# Altium schematic symbol library dAir.SchLib: 17 symbols
Pins are listed as number, name and electrical type; pins without a type are passive.

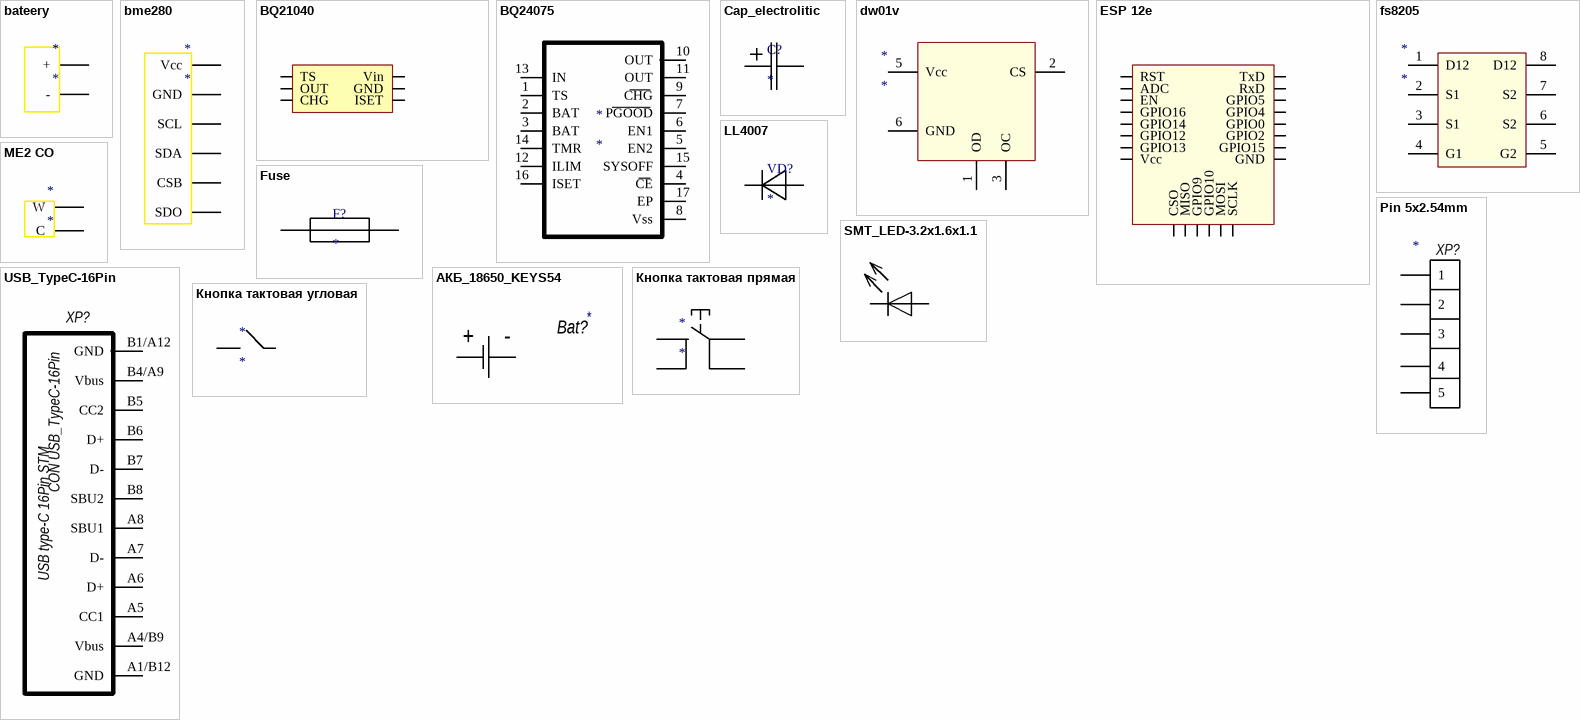
[diagram p0: symbols bateery to Кнопка тактовая угловая]

## bateery
designator *
footprint battery
pins: 1 +, 2 -

## bme280
designator *
footprint BME280_4pin
footprint BME280_4_no_pin
footprint BME280_only4_no_pin
footprint BME680
pins: 1 Vcc, 2 GND, 3 SCL, 4 SDA, 5 CSB, 6 SDO

## BQ21040
designator Q?, comment 2N3904
NPN General Purpose Amplifier; Published: 8-Jun-2000; LatestRevisionDate: 15-Jan-2003; LatestRevisionNote: PCB Footprint 'BCY-W3/D4.7' replaced; DatasheetVersion: 1997; PackageVersion: Sep-1998; PackageReference: TO-92A; Publisher: Altium Limited; PackageDescription: TO, Flat Index; 3 In-Line, Axial Leads; Body Dia. 4.5mm; Leads 0.51 x 0.48 mm (max); ComponentLink1Description: Manufacturer Link; ComponentLink1URL: http://www.fairchildsemi.com/; ComponentLink2Description: Datasheet; ComponentLink2URL: http://www.fairchildsemi.com/ds/2N%2F2N3904.pdf
footprint BQ21040
pins: 1 TS, 2 OUT, 3 CHG, 4 ISET, 5 GND, 6 Vin

## BQ24075
designator *
footprint VQFN_16 (QFN, 16-Leads, Body 3,00x3,00mm, Pitch 0,50mm, Thermal Pad 1,68x1,68mm, IPC Medium Density)
pins: 1 TS, 2 BAT, 3 BAT, 4 CE, 5 EN2, 6 EN1, 7 PGOOD, 8 Vss, 9 CHG, 10 OUT, 11 OUT, 12 ILIM, 13 IN, 14 TMR, 15 SYSOFF, 16 ISET, 17 EP

## Cap_electrolitic
designator C?
footprint Capacitor_radial_16x25_7.5mm
footprint Tantal тип D
footprint Tantal тип E
footprint Capacitor_radial_13x21_5mm
pins: 1 +, 2 -

## dw01v
designator *
footprint dw01v_SOT-23-6
pins: 1 OD, 2 CS, 3 OC, 5 Vcc, 6 GND

## ESP 12e
designator Q?
NPN General Purpose Amplifier; Published: 8-Jun-2000; LatestRevisionDate: 15-Jan-2003; LatestRevisionNote: PCB Footprint 'BCY-W3/D4.7' replaced; DatasheetVersion: 1997; PackageVersion: Sep-1998; PackageReference: TO-92A; Publisher: Altium Limited; PackageDescription: TO, Flat Index; 3 In-Line, Axial Leads; Body Dia. 4.5mm; Leads 0.51 x 0.48 mm (max); ComponentLink1Description: Manufacturer Link; ComponentLink1URL: http://www.fairchildsemi.com/; ComponentLink2Description: Datasheet; ComponentLink2URL: http://www.fairchildsemi.com/ds/2N%2F2N3904.pdf
footprint ESP 12e
pins: 1 RST, 2 ADC, 3 EN, 4 GPIO16, 5 GPIO14, 6 GPIO12, 7 GPIO13, 8 Vcc, 9 CSO, 10 MISO, 11 GPIO9, 12 GPIO10, 13 MOSI, 14 SCLK, 15 GND, 16 GPIO15, 17 GPIO2, 18 GPIO0, 19 GPIO4, 20 GPIO5, 21 RxD, 22 TxD

## fs8205
designator *
footprint fs8205-sot23-6
footprint FS8205_TSSOP-8
pins: 1 D12, 2 S1, 3 S1, 4 G1, 5 G2, 6 S2, 7 S2, 8 D12

## Fuse
designator F?
footprint FUSE_MF-MSMF050
pins: 1 *, 2 *

## LL4007
designator VD?
footprint MELF/DO-213AB
pins: 1, 2

## ME2 CO
designator *
footprint ME2_CO
pins: 1W W, 2C C

## Pin 5x2.54mm
designator *, comment XP?
footprint Pin 5x2.54
pins: 1, 2, 3, 4, 5

## SMT_LED-3.2x1.6x1.1
designator HL?, comment HL?  (value not drawn)
footprint LED_SMT-3.2x1.6x1.1
pins: 1 *, 2 *

## USB_TypeC-16Pin
designator XP?, comment CON USB_TypeC-16Pin
ST1S10PHR: *
footprint USB_type_c_16P_SMT
pins: A1/B12 GND, A4/B9 Vbus, A5 CC1, A6 D+, A7 D-, A8 SBU1, B1/A12 GND, B4/A9 Vbus, B5 CC2, B6 D+, B7 D-, B8 SBU2
text: USB type-C 16Pin STM

## АКБ_18650_KEYS54
designator Bat?
footprint Bat_18650_KEYS54
pins: 1 Bat+, 2 Bat-
text: +; -

## Кнопка тактовая прямая
designator *
footprint Кнопка тактовая прямая SMT 4.3mm
footprint Кнопка тактовая прямая SMT 5mm
footprint Кнопка тактовая прямая SMT 6mm
footprint Кнопка тактовая прямая SMT 7mm
footprint Кнопка тактовая прямая SMT 8mm
pins: 1 *, 2 *, 3 *, 4 *

## Кнопка тактовая угловая
designator *
footprint Кнопка тактовая 4,3мм
footprint Кнопка тактовая 5мм
footprint Кнопка тактовая 6,0мм
footprint Кнопка тактовая 7,0мм
footprint Кнопка тактовая 8,0мм
footprint Кнопка тактовая 13,0мм
pins: 1 *, 2 *, 3 *, 4 *